# EAGLE library part MICROSD_SPI_MODE (library microsd-comet)
MOLEX - 49225-0821 - CONNECTEUR MICRO SD PUSH/PUSH REV Fabricant: MOLEX Code commande Farnell: 1366700 <http://fr.farnell.com/molex/49225-0821/connecteur-micro-sd-push-push-rev/dp/1366700?Ntt=1366700> Référence fabricant: 49225-0821
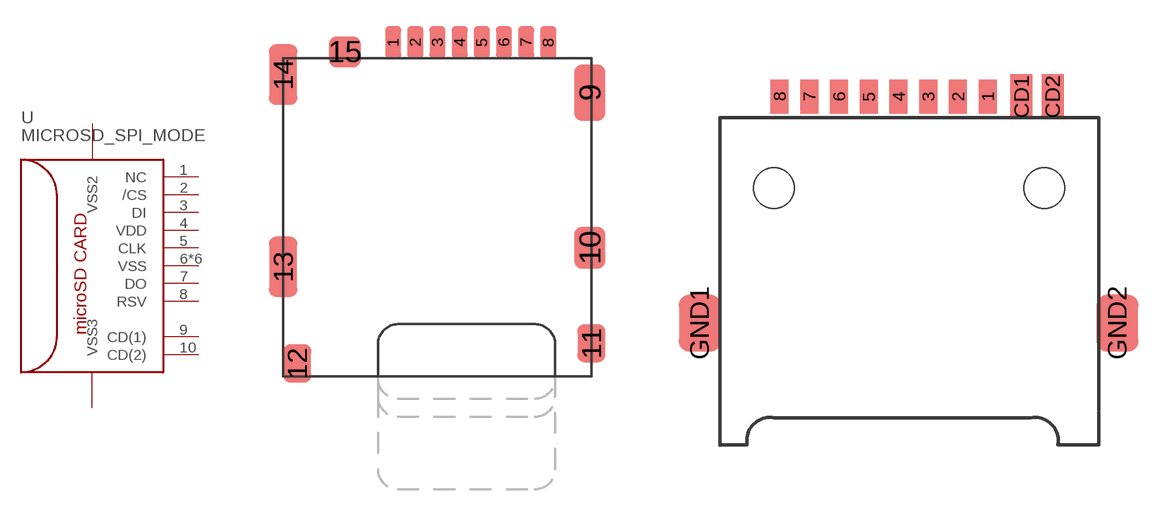
[diagram p1: symbol with the pads of MICRO_SD_CONNECTOR; footprints MICRO_SD_CONNECTOR, MICRO_SD_PPLT3_COMET]

Designator prefix -

## MICROSD_SPI_MODE  [MICRO_SD_CONNECTOR]
1  NC
2  /CS
3  DI
4  VDD
5  CLK
6  VSS
7  DO
8  RSV
9  CD(1)
10  CD(2)
11  VSS
12  VSS
13  VSS
14  VSS
15  VSS

## MICROSD_SPI_MODEMICRO_SD_COMET  [MICRO_SD_PPLT3_COMET]
1  NC
2  /CS
3  DI
4  VDD
5  CLK
6  VSS
7  DO
8  RSV
CD1  CD(1)
CD2  CD(2)
GND1  VSS
GND2  VSS

## Footprint MICRO_SD_CONNECTOR (pad centres in mm)
smd 0.8 x 1.6: 1 -2.03,8.2; 2 -0.93,8.2; 3 0.17,8.2; 4 1.27,8.2; 5 2.37,8.2; 6 3.47,8.2; 7 4.57,8.2; 8 5.67,8.2
smd 1.55 x 2.8: 9 7.735,5.7
smd 1.55 x 2.1: 10 7.735,-2
smd 1.4 x 1.9: 11 7.81,-6.75; 12 -6.79,-7.75
smd 1.4 x 3: 13 -7.49,-2.95; 14 -7.49,6.6
smd 1.6 x 1.55: 15 -4.43,7.725

## Footprint MICRO_SD_PPLT3_COMET (pad centres in mm)
smd 0.66 x 1.27: 1 9.9,12.88; 2 8.8,12.88; 3 7.7,12.88; 4 6.6,12.88; 5 5.5,12.88; 6 4.4,12.88; 7 3.3,12.88; 8 2.2,12.88
smd 0.813 x 1.676: CD1 11.15,12.88; CD2 12.3,12.88
smd 1.55 x 2.1: GND1 -0.75,4.5; GND2 14.7,4.5
hole 1.5 at 2,9.5
hole 1.5 at 12,9.5